# Altium footprint library UVICHyrbidLibrary (1).PcbLib: 116 footprints (part 1 of 8)
Each footprint in its own frame and in the unit in brackets; x right, y up, seen from the top. Pads: shape width x height; smd on the part's side, far side on the other; paste and mask are expansions set on the pad; w line width, h text height; cw(c..) or ccw(c..) is an arc to the next point about the centre after c.
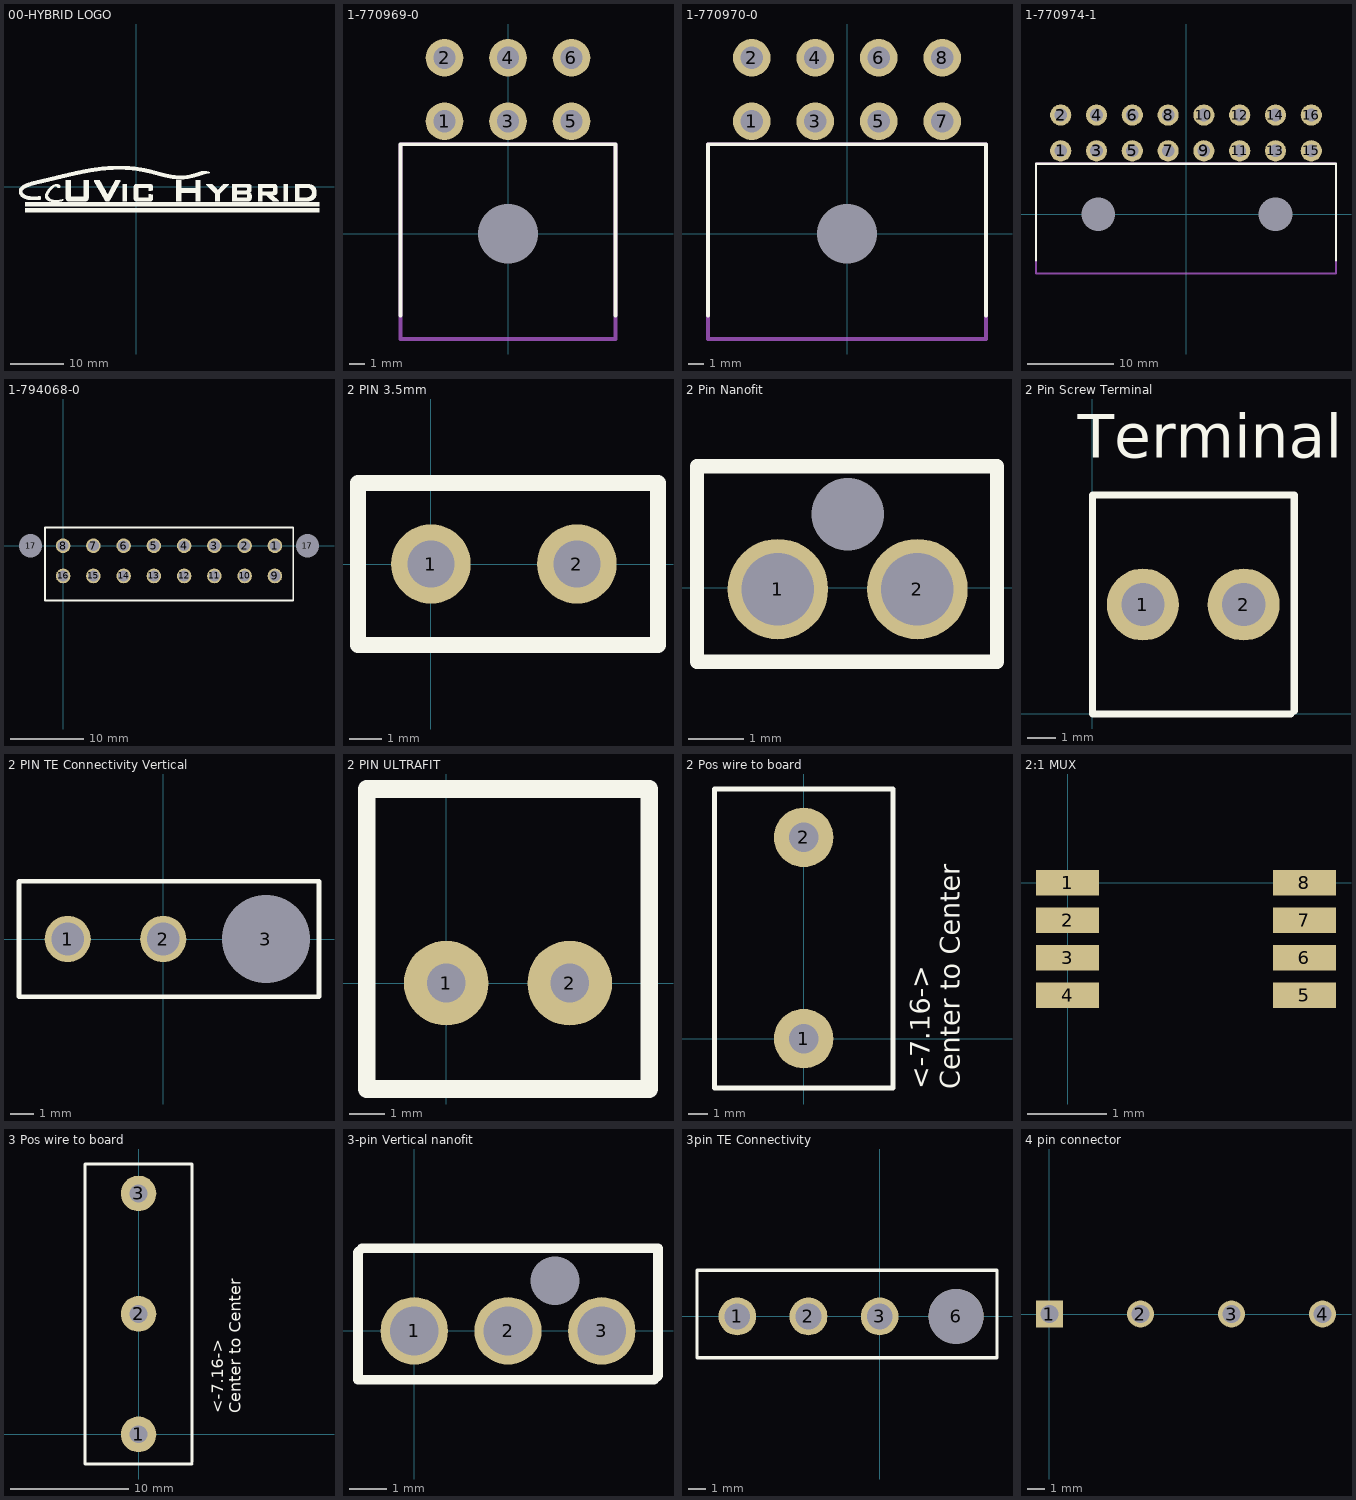
[diagram p0: the footprints below, top view; thin cyan lines are the x and y axes]

## 00-HYBRID LOGO [mm]
Top Overlay:
  drawing of 2517 lines, arcs and shapes, not listed

## 1-770969-0 [mm] "TE, 6-pin Right Angle Mini-U MATE-N-LOK"
pads (7):
  round 0 hole 3.9 unplated: 0(0,0)
  round 2.45 hole 1.45 unplated: 1(-4.14,7.34) 2(-4.14,11.48) 3(0,7.34) 4(0,11.48) 5(4.14,7.34) 6(4.14,11.48)
Top Overlay:
  lines w0.254: -7,-5.33 -7,5.84 7,5.84 7,-5.33
Mechanical 1:
  lines w0.254: -7,-6.86 7,-6.86 7,5.84 -7,5.84 -7,-6.86
3D body: height 9.8, standoff 0.76, extent -7,-6.86 7,5.84

## 1-770970-0 [mm] "TE, 8-pin Right Angle Mini-U MATE-N-LOK"
pads (9):
  round 0 hole 3.9 unplated: 0(0,0)
  round 2.45 hole 1.45: 1(-6.21,7.34) 2(-6.21,11.48) 3(-2.07,7.34) 4(-2.07,11.48) 5(2.07,7.34) 6(2.07,11.48) 7(6.21,7.34) 8(6.21,11.48)
Top Overlay:
  lines w0.254: -9.07,-5.33 -9.07,5.84 9.07,5.84 9.07,-5.33
Mechanical 1:
  lines w0.254: -9.07,-6.86 -9.07,5.84 9.07,5.84 9.07,-6.86 -9.07,-6.86
3D body: height 9.8, standoff 0.76, extent -9.07,-6.86 9.07,5.84

## 1-770974-1 [mm] "TE, 16-Pin, Right-Angle, Mini-U, MATE-N-LOK"
pads (18):
  round 0 hole 3.9 unplated: 0(-10.16,0) 0(10.351,0)
  round 2.45 hole 1.45: 1(-14.491,7.34) 2(-14.491,11.48) 3(-10.351,7.34) 4(-10.351,11.48) 5(-6.21,7.34) 6(-6.21,11.48) 7(-2.07,7.34) 8(-2.07,11.48) 9(2.07,7.34) 10(2.07,11.48) 11(6.21,7.34) 12(6.21,11.48) 13(10.351,7.34) 14(10.351,11.48) 15(14.491,7.34) 16(14.491,11.48)
Top Overlay:
  lines w0.254: -17.35,-5.33 -17.35,5.84 17.35,5.84 17.35,-5.33
Mechanical 1:
  lines w0.254: -17.35,-6.86 -17.35,5.84 17.35,5.84 17.35,-6.86 -17.35,-6.86
3D body: height 9.8, standoff 0.76, extent -17.35,-6.86 17.35,5.84

## 1-794068-0 [mm]
pads (18):
  round 2 hole 1.48: 1(28.98,0) 2(24.84,0) 3(20.7,0) 4(16.56,0) 5(12.42,0) 6(8.28,0) 7(4.14,0) 8(0,0) 9(28.98,-4.14) 10(24.84,-4.14) 11(20.7,-4.14) 12(16.56,-4.14) 13(12.42,-4.14) 14(8.28,-4.14) 15(4.14,-4.14) 16(0,-4.14)
  round 1.8 hole 3.17 unplated: 17(-4.45,0) 17(33.43,0)
Top Overlay:
  lines w0.254: -2.5,-7.5 31.5,-7.5 31.5,2.5 -2.5,2.5 -2.5,-7.5
3D body: height 5, standoff 0, extent 31.5,-1.5 34,1.5
3D body: height 5, standoff 0, extent -5,-1.5 -2.5,1.5
3D body: height 13.49, standoff 0.76, extent -2.5,-7.5 31.5,2.5

## 2 PIN 3.5mm [mm] "277-1721-ND"
pads (2):
  round 2.45 hole 1.45: 1(0,0) 2(4.5,0)
Top Overlay:
  lines w0.5: -2.25,-2.5 7,-2.5 7,2.5 -2.25,2.5 -2.25,-2.5

## 2 Pin Nanofit [mm]
pads (3):
  round 1.8 hole 1.3: 1(2.475,-0.025) 2(4.975,-0.025)
  round 0 hole 1.3: 3(3.725,1.315)
Top Overlay:
  lines w0.254: 1.025,-1.325 6.4,-1.325 6.4,2.175 1.025,2.175 1.025,-1.325

## 2 Pin Screw Terminal [mm] "pitch 3.5mm, hole 2.5mm, 277-1721-ND"
height 9.2
pads (2):
  round 2.5 hole 1.5: 1(1.75,3.8) 2(5.25,3.8)
Top Overlay:
  lines w0.254: 6.888,0 0,0 0,7.6 7,7.6 7,0.112
  text "Screw / Terminal" at -0.508,8.89 h1.52

## 2 PIN TE Connectivity Vertical [mm]
pads (3):
  round 2 hole 1.41: 1(-4.14,0) 2(0,0)
  round 2 hole 3.8 unplated: 3(4.45,0)
Top Overlay:
  lines w0.2: -6.25,-2.5 6.75,-2.5 6.75,2.5 -6.25,2.5 -6.25,-2.5

## 2 PIN ULTRAFIT [mm]
pads (2):
  round 2.4 hole 1.1: 1(0,0) 2(3.5,0)
Top Overlay:
  lines w0.5: -2.25,-3 5.75,-3 5.75,5.5 -2.25,5.5 -2.25,-3

## 2 Pos wire to board [mm] "282843-2"
pads (2):
  round 3 hole 1.5: 1(0,0) 2(0,10.16)
Top Overlay:
  lines w0.254: -4.5,-2.5 -4.5,12.6 4.5,12.6 4.5,-2.5 -4.5,-2.5
  text "<-7.16-> / Center to Center" at 7.874,-2.54 h1

## 2:1 MUX [mm]
pads (8):
  rect 0.8x0.32 smd: 1(0,0) 2(0,-0.475) 3(0,-0.95) 4(0,-1.425) 5(3,-1.425) 6(3,-0.95) 7(3,-0.475) 8(3,0)

## 3 Pos wire to board [mm] "A98085-ND"
pads (3):
  round 3 hole 1.5: 1(0,0) 2(0,10.16) 3(0,20.32)
Top Overlay:
  lines w0.254: 4.5,-2.5 -4.5,-2.5 -4.5,22.8 4.5,22.8 4.5,-2.318
  text "<-7.16-> / Center to Center" at 8.636,1.778 h1

## 3-pin Vertical nanofit [mm]
pads (4):
  round 1.8 hole 1.3: 1(0,0) 2(2.5,0) 3(5,0)
  round 0 hole 1.3: 6(3.75,1.34)
Top Overlay:
  lines w0.254: -1.5,-1.3 -1.5,-1.1 -1.5,2.1 -1.4,2.2 6.5,2.2 6.5,-1.2 6.4,-1.3 -1.3,-1.3 -1.5,-1.3

## 3pin TE Connectivity [mm]
pads (4):
  round 2.2 hole 1.5 unplated: 1(-8.28,0) 2(-4.14,0) 3(0,0)
  round 3.2 hole 3.2 unplated: 6(4.45,0)
Top Overlay:
  lines w0.2: -10.625,-2.4 6.825,-2.4 6.825,2.675 -10.625,2.675 -10.625,-2.4

## 4 pin connector [mm] "ETB Controller 200mil spacing"
pads (4):
  rect 1.5x1.5 hole 1: 1(0,0)
  round 1.5 hole 1: 2(5.08,0) 3(10.16,0) 4(15.24,0)